# Altium schematic symbol library IC-Misc.SchLib: 3 symbols
Pins are listed as number, name and electrical type; pins without a type are passive.

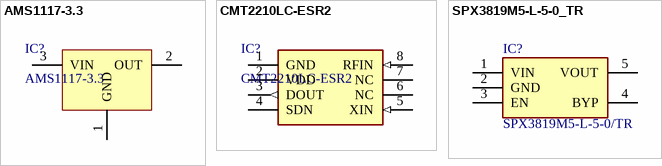
[diagram p0: symbols AMS1117-3.3 to SPX3819M5-L-5-0_TR]

## AMS1117-3.3
designator IC?
LDO 芯片; Manufacturer_Name: UMW(友台半导体); Manufacturer_Part_Number: AMS1117-3.3; LCSC: SOT-223
footprint SOT223
pins: 1 GND (power), 2 OUT (power), 3 VIN (power)

## CMT2210LC-ESR2
designator IC?
无线接收芯片; Manufacturer_Name: HOPERF(华普微电子); Manufacturer_Part_Number: CMT2210LC-ESR2; LCSC: C118065
footprint SOP-8 (SOP, 8-Leads, Body 4.90x3.90mm, Pitch 1.27mm, IPC Medium Density)
pins: 1 GND (power), 2 VDD (power), 3 DOUT (out), 4 SDN, 5 XIN (in), 6 NC, 7 NC, 8 RFIN (in)

## SPX3819M5-L-5-0_TR
designator IC?, comment SPX3819M5-L-5-0/TR
线性稳压器（输入16V 输出5V 500mA）; Manufacturer_Name: MaxLinear; Manufacturer_Part_Number: SPX3819M5-L-5-0/TR; LCSC: C13417
footprint SOT23-5 (SOT23, 5-Leads, Body 2.90x2.80mm, Pitch 0.95mm, IPC Medium Density)
pins: 1 VIN, 2 GND, 3 EN, 4 BYP, 5 VOUT